# Altium schematic symbol library buffer_digital.SchLib: 134 symbols (part 2 of 2)
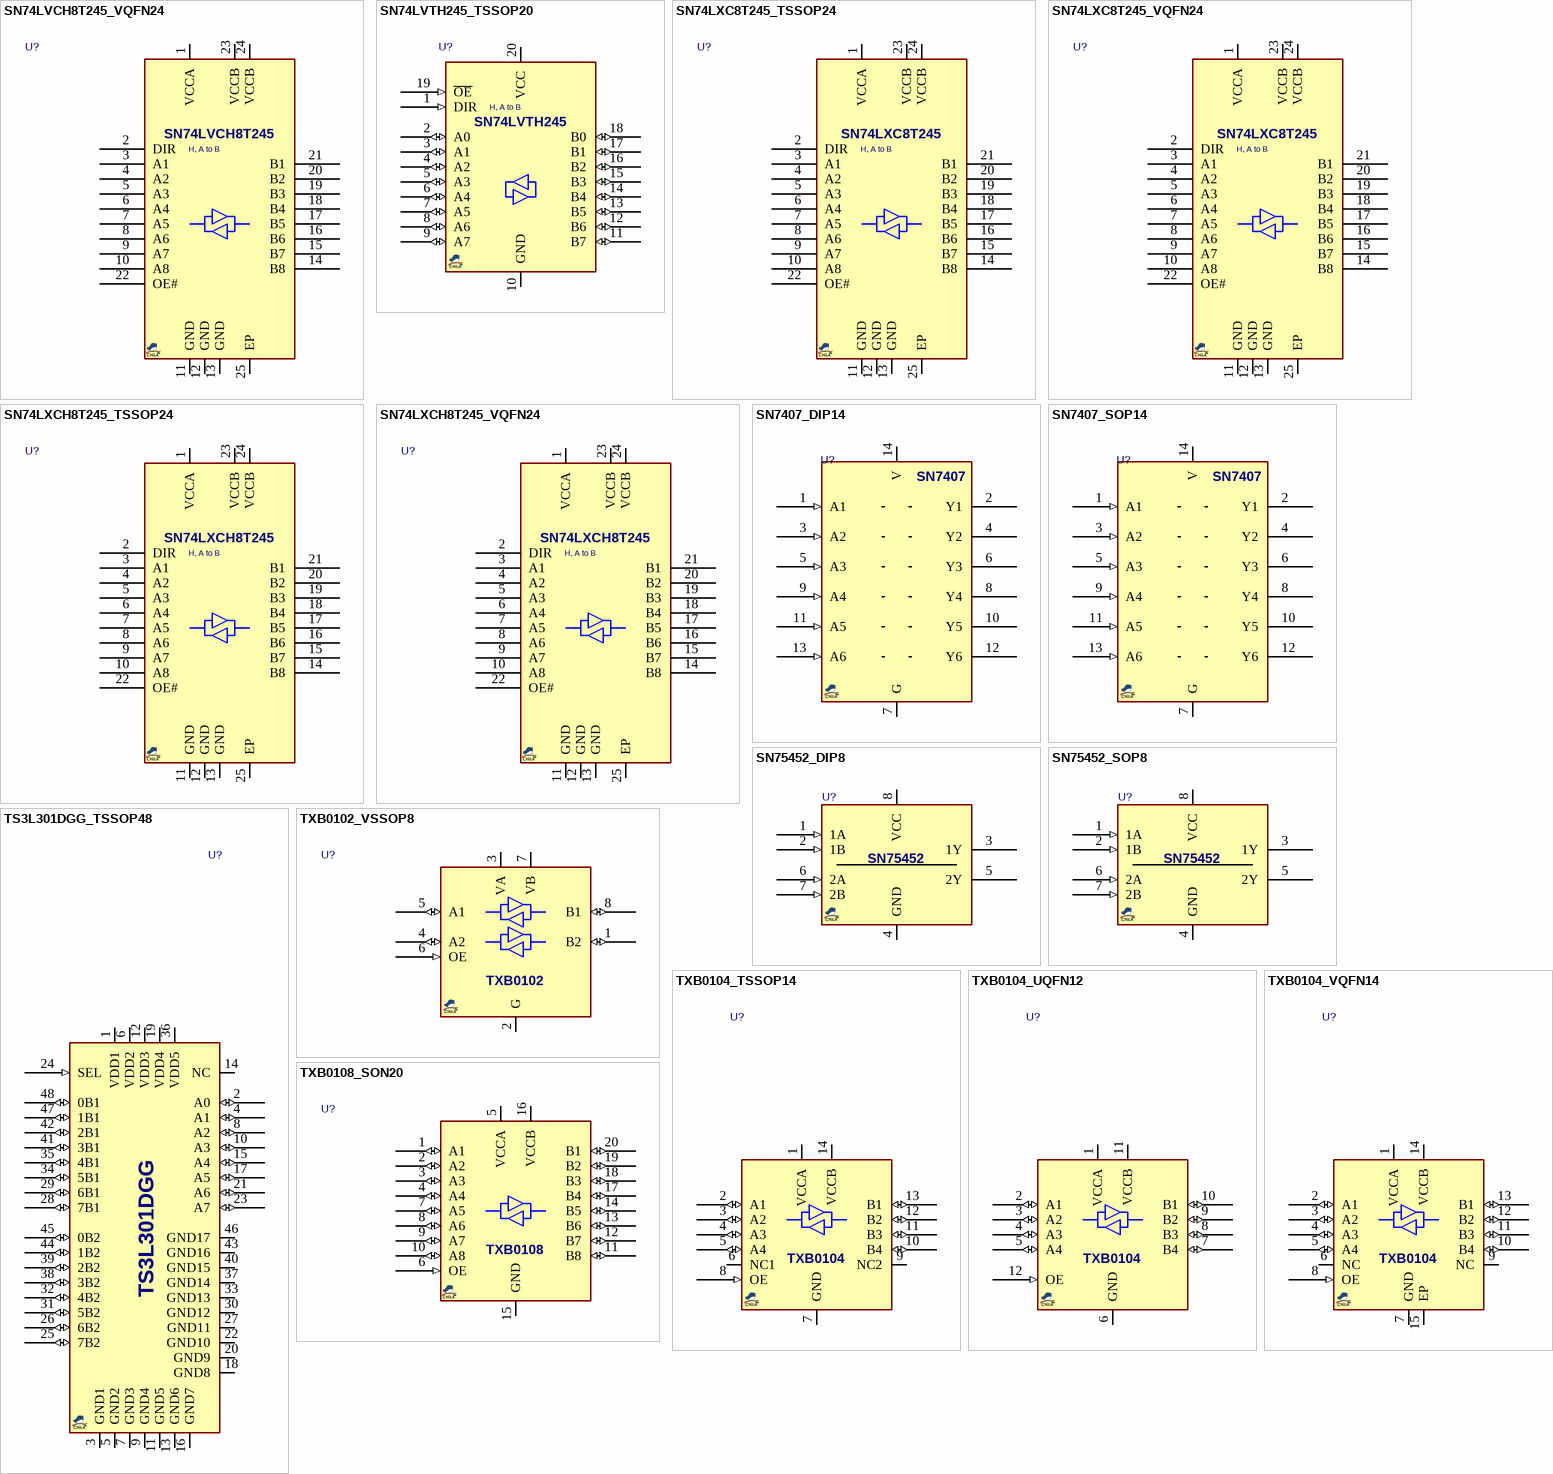
[diagram p8: symbols SN74LVCH8T245_VQFN24 to TXB0108_SON20]

## TS3L301DGG_TSSOP48
designator U?, comment TS3L301  (value not drawn)
SPDT, Gigabit LAN switch, 16-bit to 8-bit; MANF: Texas Instruments; MANF_P#: TS3L301DGG; PACKAGE: TSSOP-48; VALUE: TS3L301
footprint SOG50_48T (TSSOP 6.1mm(MAXIM), MO-153-EDT (JEDEC), 48Lead, pitch: 0.5mm, 12.5x6.1x1.2mm)
pins: 1 VDD1 (power), 2 A0 (io), 3 GND1 (power), 4 A1 (io), 5 GND2 (power), 6 VDD2 (power), 7 GND3 (power), 8 A2 (io), 9 GND4 (power), 10 A3 (io), 11 GND5 (power), 12 VDD3 (power), 13 GND6 (power), 14 NC, 15 A4 (io), 16 GND7 (power), 17 A5 (io), 18 GND8 (power), 19 VDD4 (power), 20 GND9 (power), 21 A6 (io), 22 GND10 (power), 23 A7 (io), 24 SEL (in), 25 7B2 (io), 26 6B2 (io), 27 GND11 (power), 28 7B1 (io), 29 6B1 (io), 30 GND12 (power), 31 5B2 (io), 32 4B2 (io), 33 GND13 (power), 34 5B1 (io), 35 4B1 (io), 36 VDD5 (power), 37 GND14 (power), 38 3B2 (io), 39 2B2 (io), 40 GND15 (power), 41 3B1 (io), 42 2B1 (io), 43 GND16 (power), 44 1B2 (io), 45 0B2 (io), 46 GND17 (power), 47 1B1 (io), 48 0B1 (io)

## TXB0102_VSSOP8
designator U?, comment TXB0102  (value not drawn)
Level Translator, Dual, Push-Pull; MANF: Texas Instruments; MANF_P#: TXB0102DCUR; PARAM2: 1.2~3.6VCCA, 1.65~5.5V VCCB (VCCA <= VCCB); PACKAGE: VSSOP-8; VALUE: TXB0102
footprint SOG50_8 (VSSOP DCU US8  (TI), 8-Leads, 2.00x2.30mm, Pitch 0.50mm)
pins: 1 B2 (io), 2 G (power), 3 VA (power), 4 A2 (io), 5 A1 (io), 6 OE (in), 7 VB (power), 8 B1 (io)

## TXB0104_TSSOP14
designator U?, comment TXB0104  (value not drawn)
Level Translator, Quad, 100Mbps, Push-Pull; MANF: Texas Instruments; MANF_P#: TXB0104PWR; PARAM2: 1.2~3.6VCCA, 1.65~5.5V VCCB (VCCA <= VCCB); PARAM: 100Mbps, -40~85oC; PACKAGE: TSSOP-14; VALUE: TXB0104
footprint SOG65_14 (PW TSSOP (TI), MO-153-AB (JEDEC), 14Lead, pitch: 0.65mm, 5x4.4x1.2mm)
pins: 1 VCCA, 2 A1 (io), 3 A2 (io), 4 A3 (io), 5 A4 (io), 6 NC1, 7 GND, 8 OE (in), 9 NC2, 10 B4 (io), 11 B3 (io), 12 B2 (io), 13 B1 (io), 14 VCCB

## TXB0104_UQFN12
designator U?, comment TXB0104  (value not drawn)
Level Translator, Quad, 100Mbps, Push-Pull; MANF: Texas Instruments; MANF_P#: TXB0104RUT; PARAM2: 1.2~3.6VCCA, 1.65~5.5V VCCB (VCCA<=VCCB); PARAM: 100Mbps, -40~85oC; PRICE: 1.4$; PACKAGE: UQFN-12; VALUE: TXB0104
footprint QFN40_12_1720 (UQFN-12, pitch: 0.4mm, 1.7x2x0.5mm)
pins: 1 VCCA, 2 A1 (io), 3 A2 (io), 4 A3 (io), 5 A4 (io), 6 GND, 7 B4 (io), 8 B3 (io), 9 B2 (io), 10 B1 (io), 11 VCCB, 12 OE (in)

## TXB0104_VQFN14
designator U?, comment TXB0104  (value not drawn)
Level Translator, Quad, 100Mbps, Push-Pull; MANF: Texas Instruments; MANF_P#: TXB0104RGY; PARAM2: 1.2~3.6VCCA, 1.65~5.5V VCCB (VCCA<=VCCB); PARAM: 100Mbps, -40~85oC; PRICE: 0.4$; PACKAGE: VQFN-14; VALUE: TXB0104
footprint QFN50_14T_3535 (S-PVQFN-N14, 3.5X3.5mm, pitch: 0.5mm, 6+2+6+2)
pins: 1 VCCA, 2 A1 (io), 3 A2 (io), 4 A3 (io), 5 A4 (io), 6 NC, 7 GND, 8 OE (in), 9 NC, 10 B4 (io), 11 B3 (io), 12 B2 (io), 13 B1 (io), 14 VCCB, 15 EP

## TXB0108_SON20
designator U?, comment TXB0108  (value not drawn)
Level Translator, Octal, 100Mbps, Push-Pull, Auto-bidirectional; MANF: Texas Instruments; DESC: 50mA; DIST#: -40~85oC; MANF_P#: TXB0108DQSR; PARAM2: 1.2~3.6VCCA, 1.65~5.5V VCCB (VCCA <= VCCB); PARAM: 8-BIT, BIDIRECTIONAL, AUTO-DIRECTION SENSING; PRICE: 1.5$; PACKAGE: SON-20; VALUE: TXB0108
footprint SON40_20_4020 (SON20, DQS, pitch: 0.4mm, 2x4x0.5mm)
pins: 1 A1 (io), 2 A2 (io), 3 A3 (io), 4 A4 (io), 5 VCCA (power), 6 OE (in), 7 A5 (io), 8 A6 (io), 9 A7 (io), 10 A8 (io), 11 B8 (io), 12 B7 (io), 13 B6 (io), 14 B5 (io), 15 GND (power), 16 VCCB (power), 17 B4 (io), 18 B3 (io), 19 B2 (io), 20 B1 (io)

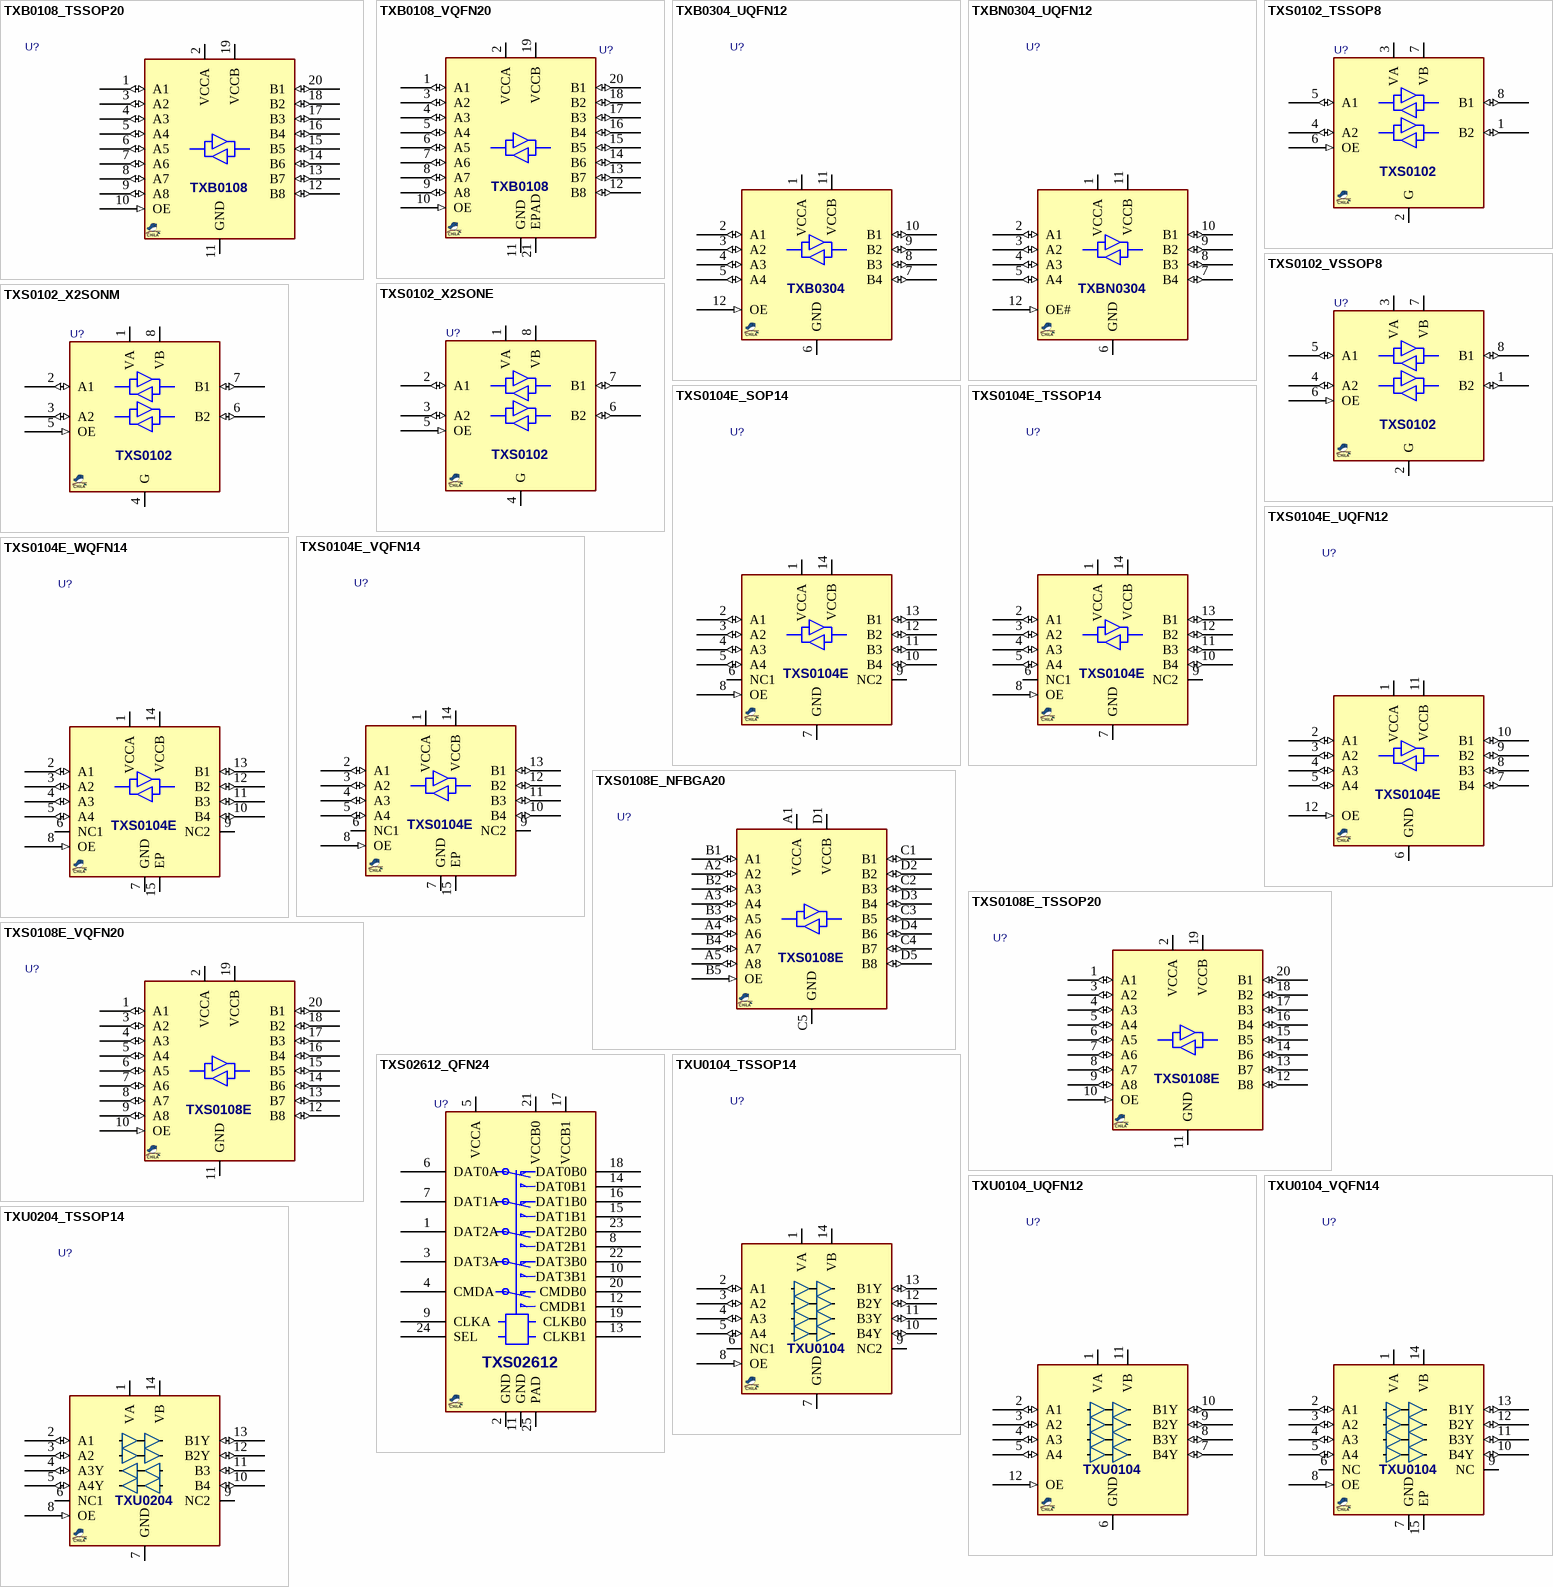
[diagram p6: symbols TXB0108_TSSOP20 to TXU0204_TSSOP14]

## TXB0108_TSSOP20
designator U?, comment TXB0108  (value not drawn)
Level Translator, Octal, 100Mbps, Push-Pull, Auto-bidirectional; MANF: Texas Instruments; DESC: 50mA; MANF_P#: TXB0108PWR; PARAM2: 1.2~3.6VCCA, 1.65~5.5V VCCB (VCCA <= VCCB); PARAM: 8-BIT, BIDIRECTIONAL, AUTO-DIRECTION SENSING; PACKAGE: TSSOP-20; VALUE: TXB0108
footprint SOG65_20 (PW TSSOP (TI), MO-153-AC (JEDEC), 20Lead, pitch: 0.65mm, 6.5x4.4x1.2mm)
pins: 1 A1 (io), 2 VCCA (power), 3 A2 (io), 4 A3 (io), 5 A4 (io), 6 A5 (io), 7 A6 (io), 8 A7 (io), 9 A8 (io), 10 OE (in), 11 GND (power), 12 B8 (io), 13 B7 (io), 14 B6 (io), 15 B5 (io), 16 B4 (io), 17 B3 (io), 18 B2 (io), 19 VCCB (power), 20 B1 (io)

## TXB0108_VQFN20
designator U?, comment TXB0108  (value not drawn)
Level Translator, Octal, 100Mbps, Push-Pull, Auto-bidirectional; DESC: 50mA; MANF: Texas Instruments; MANF_P#: TXB0108RGYR; PARAM2: 1.2~3.6VCCA, 1.65~5.5V VCCB (VCCA <= VCCB); PARAM: 8-BIT, BIDIRECTIONAL, AUTO-DIRECTION SENSING; PACKAGE: VQFN-20; VALUE: TXB0108
footprint QFN50_20T_4535 (RGY VQFN-20, 0.5mm Pitch, 4.5x3.5x1mm)
pins: 1 A1 (io), 2 VCCA (power), 3 A2 (io), 4 A3 (io), 5 A4 (io), 6 A5 (io), 7 A6 (io), 8 A7 (io), 9 A8 (io), 10 OE (in), 11 GND (power), 12 B8 (io), 13 B7 (io), 14 B6 (io), 15 B5 (io), 16 B4 (io), 17 B3 (io), 18 B2 (io), 19 VCCB (power), 20 B1 (io), 21 EPAD

## TXB0304_UQFN12
designator U?, comment TXB0304  (value not drawn)
Level Translator, Quad, 140Mbps, Push-Pull, Auto-bidirectional; MANF: Texas Instruments; MANF_P#: TXB0104RUT; PARAM2: 0.9~3.6VCC; PARAM: 100Mbps, -40~85oC; PRICE: 1.4$; PACKAGE: UQFN-12; VALUE: TXB0304
footprint QFN40_12_1720 (UQFN-12, pitch: 0.4mm, 1.7x2x0.5mm)
pins: 1 VCCA, 2 A1 (io), 3 A2 (io), 4 A3 (io), 5 A4 (io), 6 GND, 7 B4 (io), 8 B3 (io), 9 B2 (io), 10 B1 (io), 11 VCCB, 12 OE (in)

## TXBN0304_UQFN12
designator U?, comment TXBN0304  (value not drawn)
Level Translator, Quad, 140Mbps, Push-Pull, Auto-bidirectional, OE active low; MANF: Texas Instruments; MANF_P#: TXBN0304RUT; PARAM2: 0.9~3.6VCC; PARAM: 100Mbps, -40~85oC; PRICE: 1.4$; PACKAGE: UQFN-12; VALUE: TXBN0304
footprint QFN40_12_1720 (UQFN-12, pitch: 0.4mm, 1.7x2x0.5mm)
pins: 1 VCCA, 2 A1 (io), 3 A2 (io), 4 A3 (io), 5 A4 (io), 6 GND, 7 B4 (io), 8 B3 (io), 9 B2 (io), 10 B1 (io), 11 VCCB, 12 OE# (in)

## TXS0102_TSSOP8
designator U?, comment TXS0102  (value not drawn)
Level Translator, Dual, OpenDrain/PushPull App; MANF: Texas Instruments; MANF_P#: TXS0102DCT; PARAM2: 1.65~3.6VA, 2.3~5.5VB; PACKAGE: SM8 (TSSOP-8); VALUE: TXS0102
footprint SOG65_8_3 (TSSOP8, MICRO8,  DGK VSSOP-8, MSOP8,   RM-8, MS8, MSOP-8, TSSO3X5-G8/D3.1, 8 uMAX, usop8/8uSOP, MO-187AA, MO-153AA, SSOP DCT SM8 (TI), pitch: 0.65mm, 3.0mmX3.0mm)
pins: 1 B2 (io), 2 G (power), 3 VA (power), 4 A2 (io), 5 A1 (io), 6 OE (in), 7 VB (power), 8 B1 (io)

## TXS0102_VSSOP8
designator U?, comment TXS0102  (value not drawn)
Level Translator, Dual, OpenDrain/PushPull App; MANF: Texas Instruments; MANF_P#: TXS0102DCUR; PARAM2: 1.65~3.6VA, 2.3~5.5VB; PACKAGE: VSSOP-8; VALUE: TXS0102
footprint SOG50_8 (VSSOP DCU US8  (TI), 8-Leads, 2.00x2.30mm, Pitch 0.50mm)
pins: 1 B2 (io), 2 G (power), 3 VA (power), 4 A2 (io), 5 A1 (io), 6 OE (in), 7 VB (power), 8 B1 (io)

## TXS0102_X2SONE
designator U?, comment TXS0102  (value not drawn)
Level Translator, Dual, OpenDrain/PushPull App; MANF: Texas Instruments; MANF_P#: TXS0102DQER; PARAM2: 1.65~3.6VA, 2.3~5.5VB; PACKAGE: X2SON; VALUE: TXS0102
footprint SON35_8 (X2SON-8-DQE, pitch: 0.35mm, 1.4mmX1.00mm)
pins: 1 VA (power), 2 A1 (io), 3 A2 (io), 4 G (power), 5 OE (in), 6 B2 (io), 7 B1 (io), 8 VB (power)

## TXS0102_X2SONM
designator U?, comment TXS0102  (value not drawn)
Level Translator, Dual, OpenDrain/PushPull App; MANF: Texas Instruments; MANF_P#: TXS0102DQMR; PARAM2: 1.65~3.6VA, 2.3~5.5VB; PACKAGE: X2SON; VALUE: TXS0102
footprint SON40_8_1812 (X2SON8 DQM, 1.8X1.2mm, 0.4mm pitch)
pins: 1 VA (power), 2 A1 (io), 3 A2 (io), 4 G (power), 5 OE (in), 6 B2 (io), 7 B1 (io), 8 VB (power)

## TXS0104E_SOP14
designator U?, comment TXS0104E  (value not drawn)
Level Translator, Quad, Open-Drain & Push-Pull; MANF: Texas Instruments; MANF_P#: TXS0104EDR; PARAM2: 1.65~3.6VA, 2.3~5.5VB; PACKAGE: SOP-14; VALUE: TXS0104E
footprint SO_14 (SOP, SOIC, 3.9mm width, 1.27mm pitch,)
pins: 1 VCCA, 2 A1 (io), 3 A2 (io), 4 A3 (io), 5 A4 (io), 6 NC1, 7 GND, 8 OE (in), 9 NC2, 10 B4 (io), 11 B3 (io), 12 B2 (io), 13 B1 (io), 14 VCCB

## TXS0104E_TSSOP14
designator U?, comment TXS0104E  (value not drawn)
Level Translator, Quad, Open-Drain & Push-Pull; MANF: Texas Instruments; MANF_P#: TXS0104EPWR; PARAM2: 1.65~3.6VA, 2.3~5.5VB; PACKAGE: TSSOP-14; VALUE: TXS0104E
footprint SOG65_14 (PW TSSOP (TI), MO-153-AB (JEDEC), 14Lead, pitch: 0.65mm, 5x4.4x1.2mm)
pins: 1 VCCA, 2 A1 (io), 3 A2 (io), 4 A3 (io), 5 A4 (io), 6 NC1, 7 GND, 8 OE (in), 9 NC2, 10 B4 (io), 11 B3 (io), 12 B2 (io), 13 B1 (io), 14 VCCB

## TXS0104E_UQFN12
designator U?, comment TXS0104E  (value not drawn)
Level Translator, Quad, Open-Drain & Push-Pull; MANF: Texas Instruments; MANF_P#: TXS0104ERUTR; PARAM2: 1.65~3.6VA, 2.3~5.5VB; PACKAGE: WQFN-14; VALUE: TXS0104E
footprint QFN40_12_1720 (RUT, UQFN-12, pitch: 0.4mm, 1.7x2x0.5mm)
pins: 1 VCCA, 2 A1 (io), 3 A2 (io), 4 A3 (io), 5 A4 (io), 6 GND, 7 B4 (io), 8 B3 (io), 9 B2 (io), 10 B1 (io), 11 VCCB, 12 OE (in)

## TXS0104E_VQFN14
designator U?, comment TXS0104E  (value not drawn)
Level Translator, Quad, Open-Drain & Push-Pull; MANF: Texas Instruments; MANF_P#: TXS0104ERGYR; PARAM2: 1.65~3.6VA, 2.3~5.5VB; PACKAGE: VQFN-14; VALUE: TXS0104E
footprint QFN50_14T_3535 (S-PVQFN-N14, 3.5X3.5mm, pitch: 0.5mm, 6+2+6+2)
pins: 1 VCCA, 2 A1 (io), 3 A2 (io), 4 A3 (io), 5 A4 (io), 6 NC1, 7 GND, 8 OE (in), 9 NC2, 10 B4 (io), 11 B3 (io), 12 B2 (io), 13 B1 (io), 14 VCCB, 15 EP

## TXS0104E_WQFN14
designator U?, comment TXS0104E  (value not drawn)
Level Translator, Quad, Open-Drain & Push-Pull; MANF: Texas Instruments; MANF_P#: TXS0104EBQAR; PARAM2: 1.65~3.6VA, 2.3~5.5VB; PACKAGE: WQFN-14; VALUE: TXS0104E
footprint QFN50_14T_2530 (DHVQFN14, BQA, WQFN-14, 0.5mm pitch, 2.5x3x0.85mm)
pins: 1 VCCA, 2 A1 (io), 3 A2 (io), 4 A3 (io), 5 A4 (io), 6 NC1, 7 GND, 8 OE (in), 9 NC2, 10 B4 (io), 11 B3 (io), 12 B2 (io), 13 B1 (io), 14 VCCB, 15 EP

## TXS0108E_NFBGA20
designator U?, comment TXS0108E  (value not drawn)
Level Translator, Octal; MANF: Texas Instruments; MANF_P#: TXS0108ENMER; PARAM2: 1.65~3.6VA, 2.3~5.5VB; PACKAGE: NFBGA-20; VALUE: TXS0108E
footprint BGA50_20_2530 (NFBGA-20, 0.5mm pitch, 2.5x3x1mm, NME)
pins: A1 VCCA (power), A2 (io), A3 A4 (io), A4 A6 (io), A5 A8 (io), B1 A1 (io), B2 A3 (io), B3 A5 (io), B4 A7 (io), B5 OE (in), C1 B1 (io), C2 B3 (io), C3 B5 (io), C4 B7 (io), C5 GND (power), D1 VCCB (power), D2 B2 (io), D3 B4 (io), D4 B6 (io), D5 B8 (io)

## TXS0108E_TSSOP20
designator U?, comment TXS0108E  (value not drawn)
Level Translator, Octal; MANF: Texas Instruments; MANF_P#: TXS0108EPWR; PARAM2: 1.65~3.6VA, 2.3~5.5VB; PACKAGE: TSSOP-20; VALUE: TXS0108E
footprint SOG65_20 (PW TSSOP (TI), MO-153-AC (JEDEC), 20Lead, pitch: 0.65mm, 6.5x4.4x1.2mm)
pins: 1 A1 (io), 2 VCCA (power), 3 A2 (io), 4 A3 (io), 5 A4 (io), 6 A5 (io), 7 A6 (io), 8 A7 (io), 9 A8 (io), 10 OE (in), 11 GND (power), 12 B8 (io), 13 B7 (io), 14 B6 (io), 15 B5 (io), 16 B4 (io), 17 B3 (io), 18 B2 (io), 19 VCCB (power), 20 B1 (io)

## TXS0108E_VQFN20
designator U?, comment TXS0108E  (value not drawn)
Level Translator, Octal; MANF: Texas Instruments; MANF_P#: TXS0108ERGYR; PARAM2: 1.65~3.6VA, 2.3~5.5VB; PACKAGE: VQFN-20; VALUE: TXS0108E
footprint QFN50_20T_4535 (RGY VQFN-20, 0.5mm Pitch, 4.5x3.5x1mm)
pins: 1 A1 (io), 2 VCCA (power), 3 A2 (io), 4 A3 (io), 5 A4 (io), 6 A5 (io), 7 A6 (io), 8 A7 (io), 9 A8 (io), 10 OE (in), 11 GND (power), 12 B8 (io), 13 B7 (io), 14 B6 (io), 15 B5 (io), 16 B4 (io), 17 B3 (io), 18 B2 (io), 19 VCCB (power), 20 B1 (io)

## TXS02612_QFN24
designator U?, comment TXS02612  (value not drawn)
I/O Expander, SDIO; MANF: Texas Instruments; MANF_P#: TXS02612RTWR; PARAM2: 1.1~3.6V; PACKAGE: QFN-24; VALUE: TXS02612
footprint QFN50_24T (MO-220 (JEDEC), RGE S-PQFP-N24 (TI), 4X4mm, 0.5mm, HVQFN24)
pins: 1 DAT2A, 2 GND, 3 DAT3A, 4 CMDA, 5 VCCA, 6 DAT0A, 7 DAT1A, 8 DAT2B1, 9 CLKA, 10 DAT3B1, 11 GND, 12 CMDB1, 13 CLKB1, 14 DAT0B1, 15 DAT1B1, 16 DAT1B0, 17 VCCB1, 18 DAT0B0, 19 CLKB0, 20 CMDB0, 21 VCCB0, 22 DAT3B0, 23 DAT2B0, 24 SEL, 25 PAD

## TXU0104_TSSOP14
designator U?, comment TXU0104  (value not drawn)
Level Translator, Quad, 200Mbps, Push-Pull, fixed direction, with Schmitt-Trigger; MANF: Texas Instruments; MANF_P#: TXU0104PWR; PARAM2: 1.2~3.6VCCA, 1.65~5.5V VCCB (VCCA <= VCCB); PARAM: 100Mbps, -40~85oC; PACKAGE: TSSOP-14; VALUE: TXU0104
footprint SOG65_14 (PW TSSOP (TI), MO-153-AB (JEDEC), 14Lead, pitch: 0.65mm, 5x4.4x1.2mm)
pins: 1 VA, 2 A1 (io), 3 A2 (io), 4 A3 (io), 5 A4 (io), 6 NC1, 7 GND, 8 OE (in), 9 NC2, 10 B4Y (io), 11 B3Y (io), 12 B2Y (io), 13 B1Y (io), 14 VB

## TXU0104_UQFN12
designator U?, comment TXU0104  (value not drawn)
Level Translator, Quad, 200Mbps, Push-Pull, fixed direction, with Schmitt-Trigger; MANF: Texas Instruments; MANF_P#: TXU0104RUT; PARAM2: 1.2~3.6VCCA, 1.65~5.5V VCCB (VCCA<=VCCB); PARAM: 100Mbps, -40~85oC; PRICE: 1.4$; PACKAGE: UQFN-12; VALUE: TXU0104
footprint QFN40_12_1720 (UQFN-12, pitch: 0.4mm, 1.7x2x0.5mm)
pins: 1 VA, 2 A1 (io), 3 A2 (io), 4 A3 (io), 5 A4 (io), 6 GND, 7 B4Y (io), 8 B3Y (io), 9 B2Y (io), 10 B1Y (io), 11 VB, 12 OE (in)

## TXU0104_VQFN14
designator U?, comment TXU0104  (value not drawn)
Level Translator, Quad, 200Mbps, Push-Pull, fixed direction, with Schmitt-Trigger; MANF: Texas Instruments; MANF_P#: TXU0104RGY; PARAM2: 1.2~3.6VCCA, 1.65~5.5V VCCB (VCCA<=VCCB); PARAM: 100Mbps, -40~85oC; PRICE: 0.4$; PACKAGE: VQFN-14; VALUE: TXU0104
footprint QFN50_14T_2530 (DHVQFN14, BQA, WQFN-14, 0.5mm pitch, 2.5x3x0.85mm)
pins: 1 VA, 2 A1 (io), 3 A2 (io), 4 A3 (io), 5 A4 (io), 6 NC, 7 GND, 8 OE (in), 9 NC, 10 B4Y (io), 11 B3Y (io), 12 B2Y (io), 13 B1Y (io), 14 VB, 15 EP

## TXU0204_TSSOP14
designator U?, comment TXU0204  (value not drawn)
Level Translator, Quad, 200Mbps, Push-Pull, fixed direction, with Schmitt-Trigger; MANF: Texas Instruments; MANF_P#: TXU0204PWR; PARAM2: 1.2~3.6VCCA, 1.65~5.5V VCCB (VCCA <= VCCB); PARAM: 100Mbps, -40~85oC; PACKAGE: TSSOP-14; VALUE: TXU0204
footprint SOG65_14 (PW TSSOP (TI), MO-153-AB (JEDEC), 14Lead, pitch: 0.65mm, 5x4.4x1.2mm)
pins: 1 VA, 2 A1 (io), 3 A2 (io), 4 A3Y (io), 5 A4Y (io), 6 NC1, 7 GND, 8 OE (in), 9 NC2, 10 B4 (io), 11 B3 (io), 12 B2Y (io), 13 B1Y (io), 14 VB

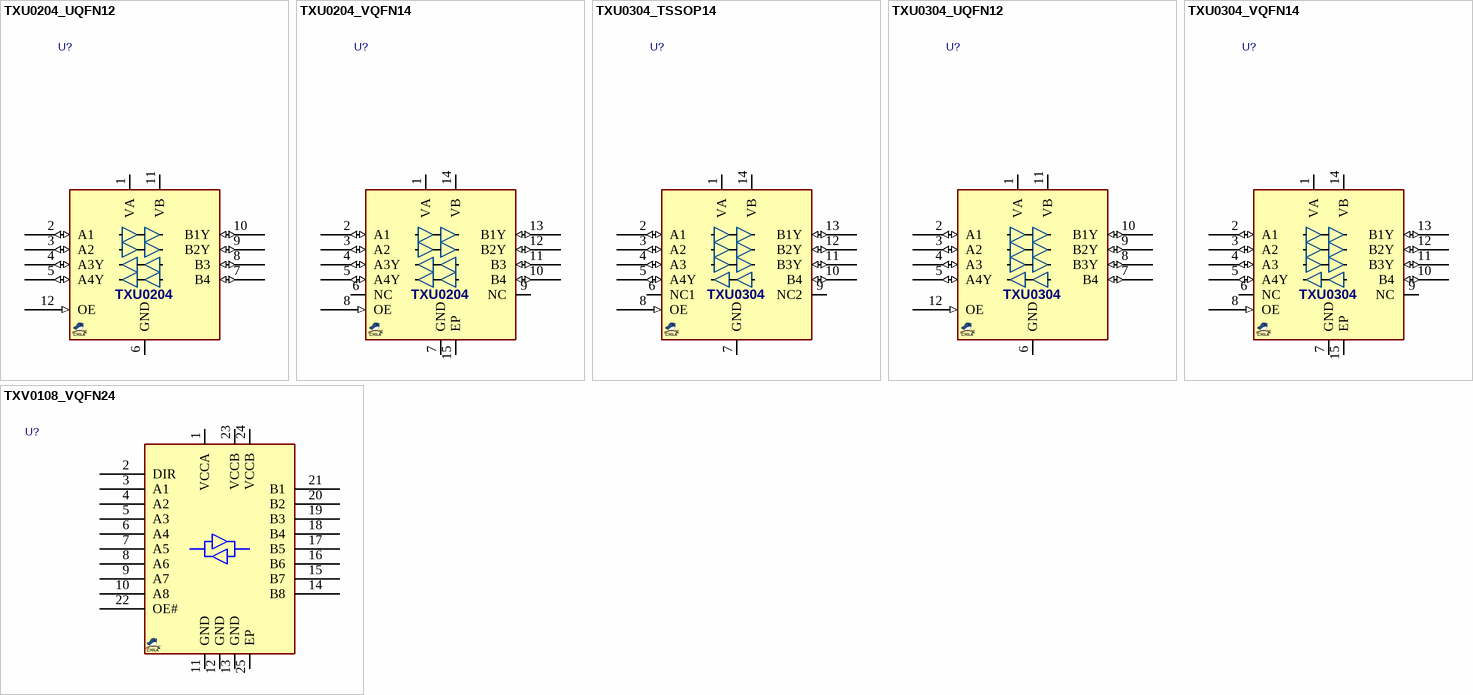
[diagram p7: symbols TXU0204_UQFN12 to TXV0108_VQFN24]

## TXU0204_UQFN12
designator U?, comment TXU0204  (value not drawn)
Level Translator, Quad, 200Mbps, Push-Pull, fixed direction, with Schmitt-Trigger; MANF: Texas Instruments; MANF_P#: TXU0204RUT; PARAM2: 1.2~3.6VCCA, 1.65~5.5V VCCB (VCCA<=VCCB); PARAM: 100Mbps, -40~85oC; PRICE: 1.4$; PACKAGE: UQFN-12; VALUE: TXU0204
footprint QFN40_12_1720 (UQFN-12, pitch: 0.4mm, 1.7x2x0.5mm)
pins: 1 VA, 2 A1 (io), 3 A2 (io), 4 A3Y (io), 5 A4Y (io), 6 GND, 7 B4 (io), 8 B3 (io), 9 B2Y (io), 10 B1Y (io), 11 VB, 12 OE (in)

## TXU0204_VQFN14
designator U?, comment TXU0204  (value not drawn)
Level Translator, Quad, 200Mbps, Push-Pull, fixed direction, with Schmitt-Trigger; MANF: Texas Instruments; MANF_P#: TXU0204RGY; PARAM2: 1.2~3.6VCCA, 1.65~5.5V VCCB (VCCA<=VCCB); PARAM: 100Mbps, -40~85oC; PRICE: 0.4$; PACKAGE: VQFN-14; VALUE: TXU0204
footprint QFN50_14T_2530 (DHVQFN14, BQA, WQFN-14, 0.5mm pitch, 2.5x3x0.85mm)
pins: 1 VA, 2 A1 (io), 3 A2 (io), 4 A3Y (io), 5 A4Y (io), 6 NC, 7 GND, 8 OE (in), 9 NC, 10 B4 (io), 11 B3 (io), 12 B2Y (io), 13 B1Y (io), 14 VB, 15 EP

## TXU0304_TSSOP14
designator U?, comment TXU0304  (value not drawn)
Level Translator, Quad, 200Mbps, Push-Pull, fixed direction, with Schmitt-Trigger; MANF: Texas Instruments; MANF_P#: TXU0304PWR; PARAM2: 1.2~3.6VCCA, 1.65~5.5V VCCB (VCCA <= VCCB); PARAM: 100Mbps, -40~85oC; PACKAGE: TSSOP-14; VALUE: TXU0304
footprint SOG65_14 (PW TSSOP (TI), MO-153-AB (JEDEC), 14Lead, pitch: 0.65mm, 5x4.4x1.2mm)
pins: 1 VA, 2 A1 (io), 3 A2 (io), 4 A3 (io), 5 A4Y (io), 6 NC1, 7 GND, 8 OE (in), 9 NC2, 10 B4 (io), 11 B3Y (io), 12 B2Y (io), 13 B1Y (io), 14 VB

## TXU0304_UQFN12
designator U?, comment TXU0304  (value not drawn)
Level Translator, Quad, 200Mbps, Push-Pull, fixed direction, with Schmitt-Trigger; MANF: Texas Instruments; MANF_P#: TXU0304RUT; PARAM2: 1.2~3.6VCCA, 1.65~5.5V VCCB (VCCA<=VCCB); PARAM: 100Mbps, -40~85oC; PRICE: 1.4$; PACKAGE: UQFN-12; VALUE: TXU0304
footprint QFN40_12_1720 (UQFN-12, pitch: 0.4mm, 1.7x2x0.5mm)
pins: 1 VA, 2 A1 (io), 3 A2 (io), 4 A3 (io), 5 A4Y (io), 6 GND, 7 B4 (io), 8 B3Y (io), 9 B2Y (io), 10 B1Y (io), 11 VB, 12 OE (in)

## TXU0304_VQFN14
designator U?, comment TXU0304  (value not drawn)
Level Translator, Quad, 200Mbps, Push-Pull, fixed direction, with Schmitt-Trigger; MANF: Texas Instruments; MANF_P#: TXU0304RGY; PARAM2: 1.2~3.6VCCA, 1.65~5.5V VCCB (VCCA<=VCCB); PARAM: 100Mbps, -40~85oC; PRICE: 0.4$; PACKAGE: VQFN-14; VALUE: TXU0304
footprint QFN50_14T_2530 (DHVQFN14, BQA, WQFN-14, 0.5mm pitch, 2.5x3x0.85mm)
pins: 1 VA, 2 A1 (io), 3 A2 (io), 4 A3 (io), 5 A4Y (io), 6 NC, 7 GND, 8 OE (in), 9 NC, 10 B4 (io), 11 B3Y (io), 12 B2Y (io), 13 B1Y (io), 14 VB, 15 EP

## TXV0108_VQFN24
designator U?, comment TXV0108  (value not drawn)
Level Translator, Octal, 500Mbps, Low-Skew, Low-Jitter; MANF: Texas Instruments; MANF_P#: TXV0108RGYR; PARAM2: 1.14~3.6v; PARAM: 500Mbps, Low-Skew, Low-Jitter; PACKAGE: VQFN-24; VALUE: TXV0108
footprint QFN50_24T_5535 (RGY VQFN-24, 0.5mm Pitch, 5.5x3.5x1mm)
pins: 1 VCCA, 2 DIR, 3 A1, 4 A2, 5 A3, 6 A4, 7 A5, 8 A6, 9 A7, 10 A8, 11 GND, 12 GND, 13 GND, 14 B8, 15 B7, 16 B6, 17 B5, 18 B4, 19 B3, 20 B2, 21 B1, 22 OE#, 23 VCCB, 24 VCCB, 25 EP